# EAGLE library part ADS1115IDGSR (library ADS1115IDGSR)
16-Bit 860SPS 4-Ch Delta-Sigma ADC With PGA, Oscillator, Vref, Comparator, and I2C Source: Datasheet <http://www.ti.com/lit/gpn/ADS1115>
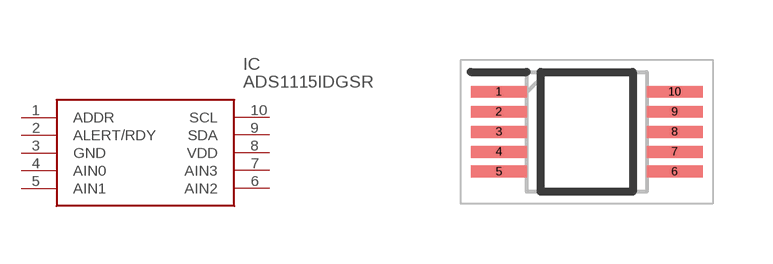
[diagram p0: symbol with the pads of SOP50P490X110-10N; footprint SOP50P490X110-10N]

Designator prefix IC

## ADS1115IDGSR (Description: 16-Bit 860SPS 4-Ch Delta-Sigma ADC With PGA, Oscillator, Vref, Comparator, and I2C; Height: 1.1mm; Manufacturer_Name: Texas Instruments; Manufacturer_Part_Number: ADS1115IDGSR)  [SOP50P490X110-10N]
1  ADDR
2  ALERT/RDY
3  GND
4  AIN0
5  AIN1
6  AIN2
7  AIN3
8  VDD
9  SDA
10  SCL

## Footprint SOP50P490X110-10N (pad centres in mm)
DGS0010A
smd 1.4 x 0.3: 1 -2.2,1; 2 -2.2,0.5; 3 -2.2,0; 4 -2.2,-0.5; 5 -2.2,-1; 6 2.2,-1; 7 2.2,-0.5; 8 2.2,0; 9 2.2,0.5; 10 2.2,1